# EAGLE library part M08 (library custom)
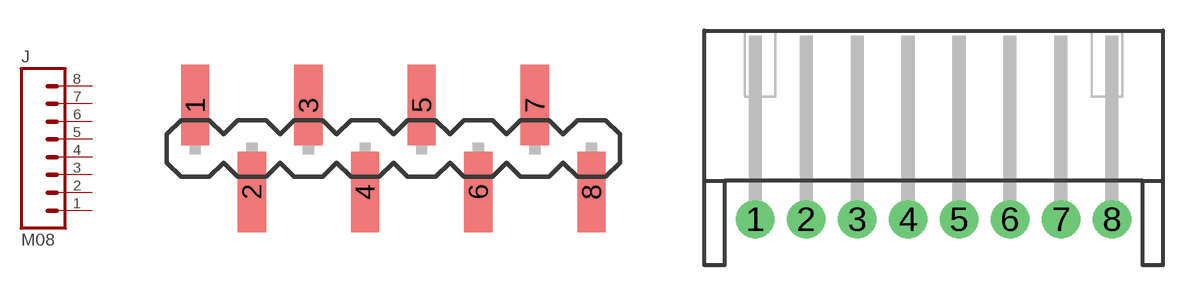
[diagram p32: symbol with the pads of M08_SMD; footprints M08_SMD, S8B-XH-A]

Designator prefix J

## M08SMD  [M08_SMD]
1  1  pas
2  2  pas
3  3  pas
4  4  pas
5  5  pas
6  6  pas
7  7  pas
8  8  pas

## M08  [S8B-XH-A]
Pads as for M08_SMD

## Footprint M08_SMD (pad centres in mm)
smd 1.27 x 3.607: 1 0,1.943; 2 2.54,-1.943; 3 5.08,1.943; 4 7.62,-1.943; 5 10.16,1.943; 6 12.7,-1.943; 7 15.24,1.943; 8 17.78,-1.943

## Footprint S8B-XH-A (pad centres in mm)
drill 1.016 pad 1.88: 1 -2.5,0; 2 0,0; 3 2.5,0; 4 5,0; 5 7.5,0; 6 10,0; 7 12.5,0; 8 15,0